# Altium footprint library sar19-main-board.PcbLib: 4 footprints
Each footprint in its own frame and in the unit in brackets; x right, y up, seen from the top. Pads: shape width x height; smd on the part's side, far side on the other; paste and mask are expansions set on the pad; w line width, h text height; cw(c..) or ccw(c..) is an arc to the next point about the centre after c.
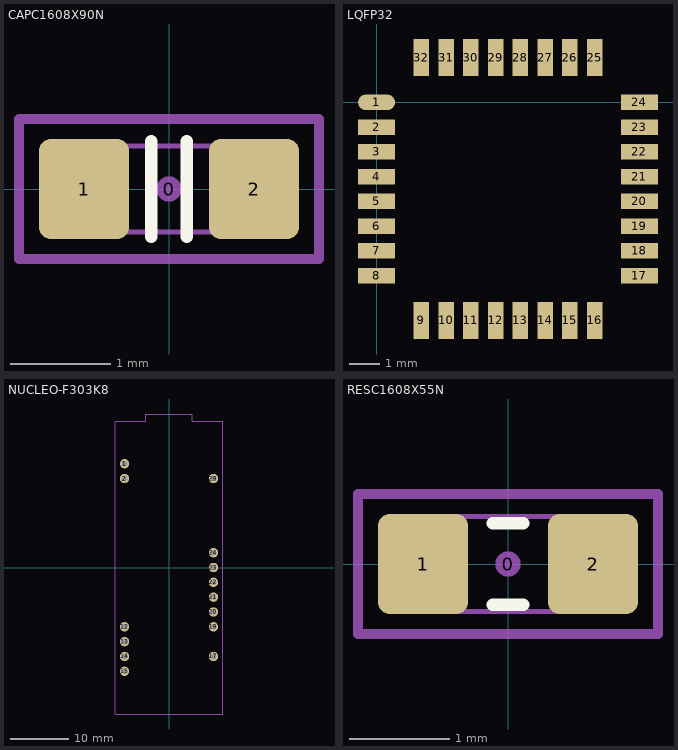
[diagram p0: the footprints below, top view; thin cyan lines are the x and y axes]

## CAPC1608X90N [mm] "Chip Capacitor, Body 1.6x0.8mm, EIA 0603, IPC Medium Density"
height 0.9
pads (3):
  round 0.254 on Mech15: 0(0,0)
  rrect25% 0.9x1 smd: 1(-0.85,0) 2(0.85,0)
Top Overlay:
  lines w0.127: -0.178,-0.476 -0.178,0.476 ; 0.178,-0.476 0.178,0.476
Mechanical 13:
  lines w0.05: -0.55,-0.43 0.55,-0.43 ; -0.55,0.43 0.55,0.43 ; -0.85,-0.45 -0.85,0.45 -0.55,0.45 -0.55,-0.45 -0.85,-0.45 ; 0.55,-0.45 0.55,0.45 0.85,0.45 0.85,-0.45 0.55,-0.45
Mechanical 15:
  lines w0.1: -1.5,-0.7 -1.5,0.7 1.5,0.7 1.5,-0.7 -1.5,-0.7
3D body "CAP_0603.STEP": height 0.89, standoff -0.01, extent -0.85,-0.45 0.85,0.45

## LQFP32 [mm]
pads (32):
  oval 1.2x0.5 smd: 1(0,0)
  rect 1.2x0.5 smd: 2(0,-0.8) 3(0,-1.6) 4(0,-2.4) 5(0,-3.2) 6(0,-4) 7(0,-4.8) 8(0,-5.6) 17(8.5,-5.6) 18(8.5,-4.8) 19(8.5,-4) 20(8.5,-3.2) 21(8.5,-2.4) 22(8.5,-1.6) 23(8.5,-0.8) 24(8.5,0)
  rect 0.5x1.2 smd: 9(1.45,-7.05) 10(2.25,-7.05) 11(3.05,-7.05) 12(3.85,-7.05) 13(4.65,-7.05) 14(5.45,-7.05) 15(6.25,-7.05) 16(7.05,-7.05) 25(7.05,1.45) 26(6.25,1.45) 27(5.45,1.45) 28(4.65,1.45) 29(3.85,1.45) 30(3.05,1.45) 31(2.25,1.45) 32(1.45,1.45)
3D body "LQFP32.STEP": height 1.62, standoff -0.01, extent -0.322,-7.372 8.822,1.772

## NUCLEO-F303K8 [mm]
pads (14):
  round 1.6 hole 1: 1(-7.62,17.78) 2(-7.62,15.24) 12(-7.62,-10.16) 13(-7.62,-12.7) 14(-7.62,-15.24) 15(-7.62,-17.78) 17(7.62,-15.24) 19(7.62,-10.16) 20(7.62,-7.62) 21(7.62,-5.08) 22(7.62,-2.54) 23(7.62,0) 24(7.62,2.54) 29(7.62,15.24)
Mechanical 13:
  lines w0.2: -9.2,-25.1 -9.2,25.1 -4,25.1 -4,26.3 4,26.3 4,25.1 9.2,25.1 9.2,-25.1 -9.2,-25.1
3D body: height 10.16, standoff 0, extent -8.89,-19.05 -6.35,19.05
3D body: height 10.16, standoff 0, extent 6.35,-19.05 8.89,19.05

## RESC1608X55N [mm] "Chip Resistor, Body 1.6x0.8mm, EIA 0603, IPC Medium Density"
height 0.55
pads (3):
  round 0.254 on Mech15: 0(0,0)
  rrect25% 0.9x1 smd: 1(-0.85,0) 2(0.85,0)
Top Overlay:
  lines w0.127: -0.152,-0.406 0.152,-0.406 ; -0.152,0.406 0.152,0.406
Mechanical 13:
  lines w0.05: -0.875,-0.475 -0.875,0.475 -0.475,0.475 -0.475,-0.475 -0.875,-0.475 ; -0.475,-0.474 0.475,-0.474 -0.475,-0.474 ; -0.475,0.474 0.475,0.474 -0.475,0.474 ; 0.475,-0.475 0.875,-0.475 0.875,0.475 0.475,0.475 0.475,-0.475
Mechanical 15:
  lines w0.1: -1.5,-0.7 1.5,-0.7 1.5,0.7 -1.5,0.7 -1.5,-0.7
3D body "RES 0603 (1608 metric).STEP": height 0.54, standoff -0.01, extent -0.875,-0.475 0.875,0.475